# Altium footprint library Package_SON.PcbLib: 112 footprints (part 2 of 7)
Each footprint in its own frame and in the unit in brackets; x right, y up, seen from the top. Pads: shape width x height; smd on the part's side, far side on the other; paste and mask are expansions set on the pad; w line width, h text height; cw(c..) or ccw(c..) is an arc to the next point about the centre after c.
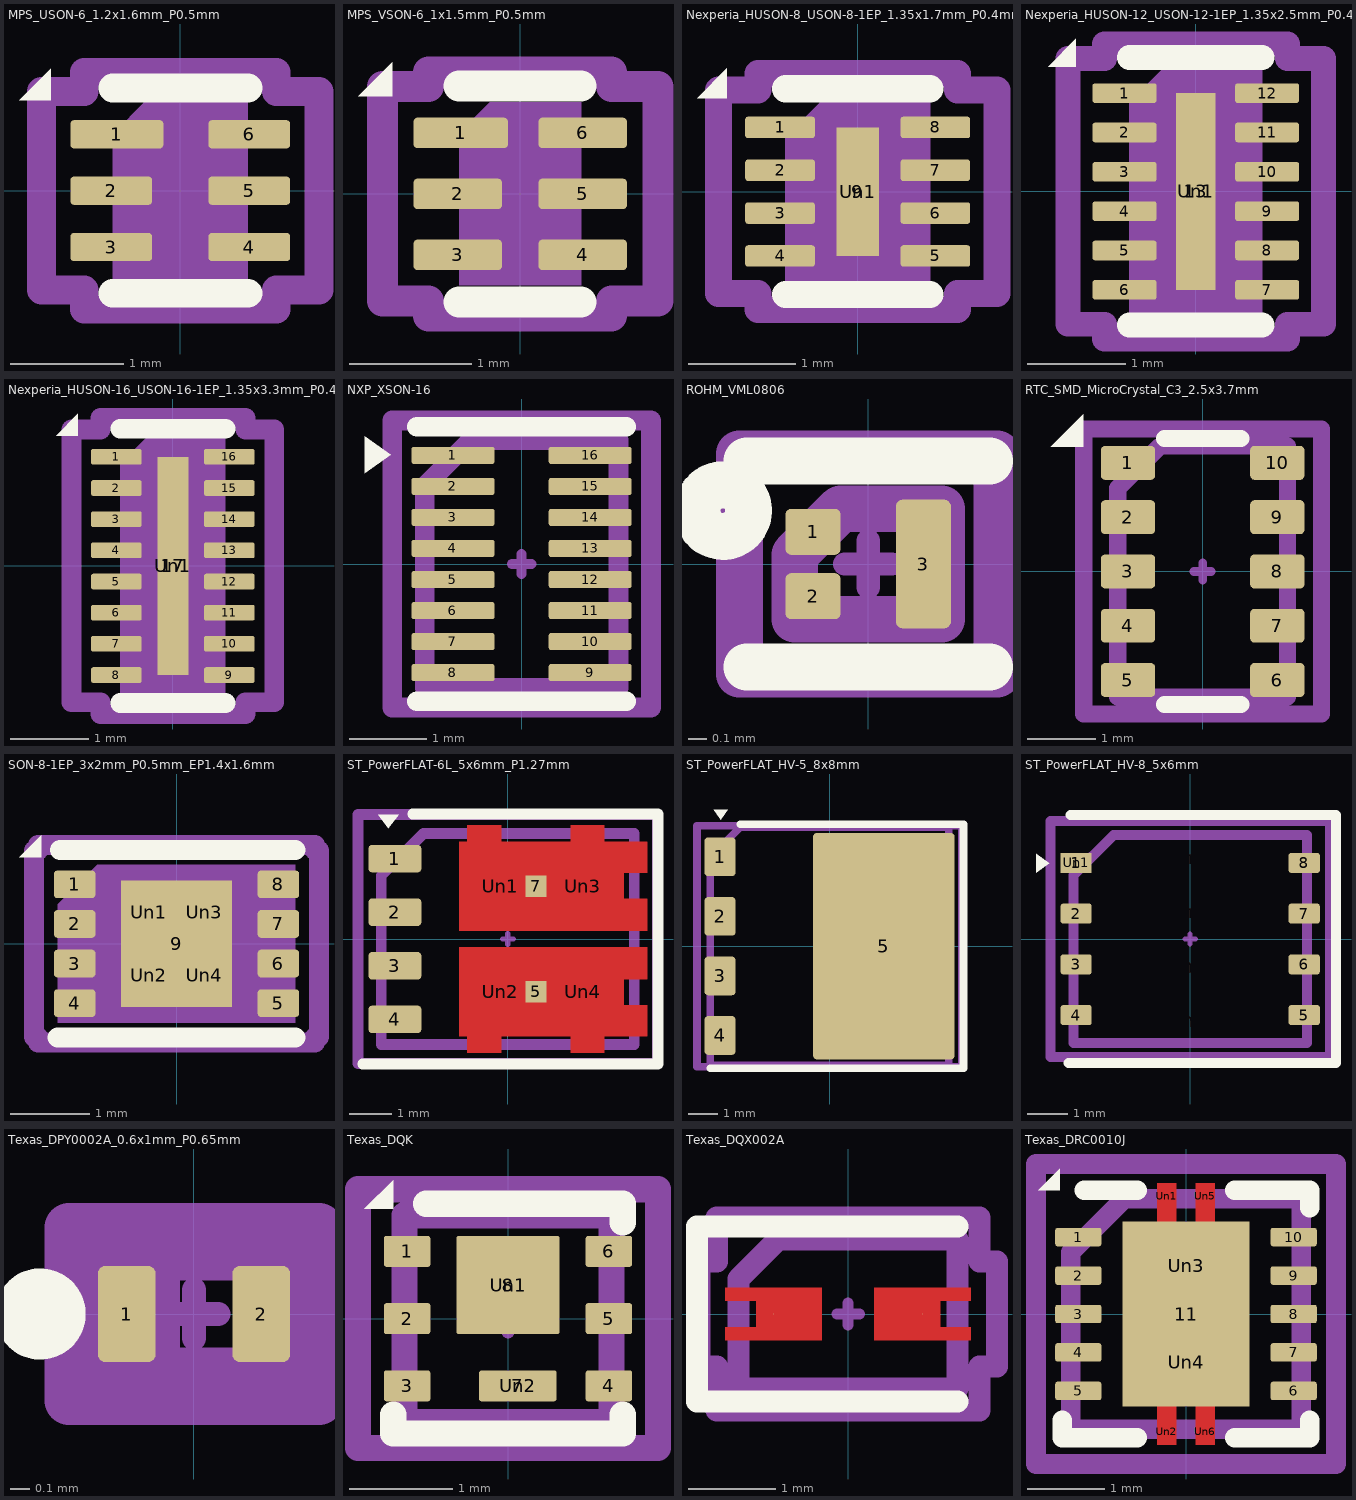
[diagram p1: the footprints below, top view; thin cyan lines are the x and y axes]

## MPS_USON-6_1.2x1.6mm_P0.5mm [mm] "MPS_USON-6_1.2x1.6mm_P0.5mm"
pads (6):
  rrect25% 0.825x0.25 smd: 1(-0.563,0.5)
  rrect25% 0.725x0.25 smd: 2(-0.613,0) 3(-0.613,-0.5) 4(0.613,-0.5) 5(0.613,0) 6(0.613,0.5)
F.SilkS:
  region: -1.15,0.8 -1.43,0.8 -1.15,1.08
  lines w0.254: -0.6,-0.91 0.6,-0.91 ; -0.6,0.91 0.6,0.91
Top Component Center:
  lines w0.127: -0.127,0 0.127,0 ; 0,-0.127 0,0.127
Top Assembly:
  region: 0.6,-0.8 -0.6,-0.8 -0.6,0.5 -0.3,0.8 0.6,0.8
Top Courtyard:
  lines w0.254: -1.23,-0.88 -0.85,-0.88 -0.85,-1.05 0.85,-1.05 0.85,-0.88 1.23,-0.88 1.23,0.88 0.85,0.88 0.85,1.05 -0.85,1.05 -0.85,0.88 -1.23,0.88 -1.23,-0.88
Top Designator:
  text ".Designator" at -2.252,-0.226 h1

## MPS_VSON-6_1x1.5mm_P0.5mm [mm] "MPS_VSON-6_1x1.5mm_P0.5mm"
pads (6):
  rrect25% 0.775x0.25 smd: 1(-0.487,0.5)
  rrect25% 0.725x0.25 smd: 2(-0.513,0) 3(-0.513,-0.5) 4(0.513,-0.5) 5(0.513,0) 6(0.513,0.5)
F.SilkS:
  region: -1.05,0.8 -1.33,0.8 -1.05,1.08
  lines w0.254: -0.5,-0.885 0.5,-0.885 ; -0.5,0.885 0.5,0.885
Top Component Center:
  lines w0.127: -0.127,0 0.127,0 ; 0,-0.127 0,0.127
Top Assembly:
  region: 0.5,-0.75 -0.5,-0.75 -0.5,0.5 -0.25,0.75 0.5,0.75
Top Courtyard:
  lines w0.254: -1.13,-0.88 -0.75,-0.88 -0.75,-1 0.75,-1 0.75,-0.88 1.13,-0.88 1.13,0.88 0.75,0.88 0.75,1 -0.75,1 -0.75,0.88 -1.13,0.88 -1.13,-0.88
Top Designator:
  text ".Designator" at -1.689,-0.17 h0.75

## Nexperia_HUSON-8_USON-8-1EP_1.35x1.7mm_P0.4mm_EP0.4x1.2mm [mm] "Nexperia_HUSON-8_USON-8-1EP_1.35x1.7mm_P0.4mm_EP0.4x1.2mm"
pads (10):
  rrect25% 0.65x0.2 smd: 1(-0.725,0.6) 2(-0.725,0.2) 3(-0.725,-0.2) 4(-0.725,-0.6) 5(0.725,-0.6) 6(0.725,-0.2) 7(0.725,0.2) 8(0.725,0.6)
  rect 0.4x1.2 smd: 9(0,0)
  rrect25% 0.32x0.97 on Top Paste: Un1(0,0)
F.SilkS:
  region: -1.22,0.87 -1.5,0.87 -1.22,1.15
  lines w0.254: -0.675,-0.96 0.675,-0.96 ; -0.675,0.96 0.675,0.96
Top Component Center:
  lines w0.127: -0.127,0 0.127,0 ; 0,-0.127 0,0.127
Top Assembly:
  region: 0.675,-0.85 -0.675,-0.85 -0.675,0.513 -0.337,0.85 0.675,0.85
Top Courtyard:
  lines w0.254: -1.3,-0.95 -0.93,-0.95 -0.93,-1.1 0.93,-1.1 0.93,-0.95 1.3,-0.95 1.3,0.95 0.93,0.95 0.93,1.1 -0.93,1.1 -0.93,0.95 -1.3,0.95 -1.3,-0.95
Top Designator:
  text ".Designator" at -2.252,-0.226 h1
3D body "Nexperia_HUSON-8_USON-8-1EP_1.35x1.7mm_P0.4mm_EP0.4x1.2mm.step": height 0.56, standoff 0, extent -0.675,-0.837 0.675,0.837

## Nexperia_HUSON-12_USON-12-1EP_1.35x2.5mm_P0.4mm_EP0.4x2mm [mm] "Nexperia_HUSON-12_USON-12-1EP_1.35x2.5mm_P0.4mm_EP0.4x2mm"
pads (14):
  rrect25% 0.65x0.2 smd: 1(-0.725,1) 2(-0.725,0.6) 3(-0.725,0.2) 4(-0.725,-0.2) 5(-0.725,-0.6) 6(-0.725,-1) 7(0.725,-1) 8(0.725,-0.6) 9(0.725,-0.2) 10(0.725,0.2) 11(0.725,0.6) 12(0.725,1)
  rect 0.4x2 smd: 13(0,0)
  rrect25% 0.32x1.61 on Top Paste: Un1(0,0)
F.SilkS:
  region: -1.22,1.27 -1.5,1.27 -1.22,1.55
  lines w0.254: -0.675,-1.36 0.675,-1.36 ; -0.675,1.36 0.675,1.36
Top Component Center:
  lines w0.127: -0.127,0 0.127,0 ; 0,-0.127 0,0.127
Top Assembly:
  region: 0.675,-1.25 -0.675,-1.25 -0.675,0.913 -0.337,1.25 0.675,1.25
Top Courtyard:
  lines w0.254: -1.3,-1.35 -0.93,-1.35 -0.93,-1.5 0.93,-1.5 0.93,-1.35 1.3,-1.35 1.3,1.35 0.93,1.35 0.93,1.5 -0.93,1.5 -0.93,1.35 -1.3,1.35 -1.3,-1.35
Top Designator:
  text ".Designator" at -2.252,-0.226 h1
3D body "Nexperia_HUSON-12_USON-12-1EP_1.35x2.5mm_P0.4mm_EP0.4x2mm.step": height 0.56, standoff 0, extent -0.675,-1.238 0.675,1.238

## Nexperia_HUSON-16_USON-16-1EP_1.35x3.3mm_P0.4mm_EP0.4x2.8mm [mm] "Nexperia_HUSON-16_USON-16-1EP_1.35x3.3mm_P0.4mm_EP0.4x2.8mm"
pads (18):
  rrect25% 0.65x0.2 smd: 1(-0.725,1.4) 2(-0.725,1) 3(-0.725,0.6) 4(-0.725,0.2) 5(-0.725,-0.2) 6(-0.725,-0.6) 7(-0.725,-1) 8(-0.725,-1.4) 9(0.725,-1.4) 10(0.725,-1) 11(0.725,-0.6) 12(0.725,-0.2) 13(0.725,0.2) 14(0.725,0.6) 15(0.725,1) 16(0.725,1.4)
  rect 0.4x2.8 smd: 17(0,0)
  rrect25% 0.32x2.26 on Top Paste: Un1(0,0)
F.SilkS:
  region: -1.22,1.67 -1.5,1.67 -1.22,1.95
  lines w0.254: -0.675,-1.76 0.675,-1.76 ; -0.675,1.76 0.675,1.76
Top Component Center:
  lines w0.127: -0.127,0 0.127,0 ; 0,-0.127 0,0.127
Top Assembly:
  region: 0.675,-1.65 -0.675,-1.65 -0.675,1.312 -0.337,1.65 0.675,1.65
Top Courtyard:
  lines w0.254: -1.3,-1.75 -0.93,-1.75 -0.93,-1.9 0.93,-1.9 0.93,-1.75 1.3,-1.75 1.3,1.75 0.93,1.75 0.93,1.9 -0.93,1.9 -0.93,1.75 -1.3,1.75 -1.3,-1.75
Top Designator:
  text ".Designator" at -2.252,-0.226 h1
3D body "Nexperia_HUSON-16_USON-16-1EP_1.35x3.3mm_P0.4mm_EP0.4x2.8mm.step": height 0.56, standoff 0, extent -0.675,-1.637 0.675,1.637

## NXP_XSON-16 [mm] "NXP_XSON-16"
pads (16):
  rrect25% 1.07x0.22 smd: 1(-0.885,1.4) 2(-0.885,1) 3(-0.885,0.6) 4(-0.885,0.2) 5(-0.885,-0.2) 6(-0.885,-0.6) 7(-0.885,-1) 8(-0.885,-1.4) 9(0.885,-1.4) 10(0.885,-1) 11(0.885,-0.6) 12(0.885,-0.2) 13(0.885,0.2) 14(0.885,0.6) 15(0.885,1) 16(0.885,1.4)
F.SilkS:
  region: -1.69,1.41 -2.02,1.17 -2.02,1.65
  lines w0.254: -1.35,-1.77 1.35,-1.77 ; -1.35,1.77 1.35,1.77
Top Component Center:
  lines w0.127: -0.127,0 0.127,0 ; 0,-0.127 0,0.127
Top Assembly:
  lines w0.254: -1.25,0.975 -1.25,-1.6 1.25,-1.6 1.25,1.6 -0.625,1.6 ; -1.25,1 -0.65,1.6
Top Courtyard:
  lines w0.254: -1.67,-1.85 1.67,-1.85 1.67,1.85 -1.67,1.85 -1.67,-1.85
Top Designator:
  text ".Designator" at -3.434,-0.345 h1.52
3D body "NXP_XSON-16.step": height 0.52, standoff 0, extent -1.25,-1.59 1.25,1.59

## ROHM_VML0806 [mm] "ROHM_VML0806"
pads (3):
  rrect25% 0.3x0.25 smd: 1(-0.3,0.175) 2(-0.3,-0.175)
  rrect25% 0.3x0.7 smd: 3(0.3,0)
F.SilkS:
  circle w0.254: c-0.79,0.29 r0.14
  lines w0.254: -0.66,-0.56 0.66,-0.56 ; -0.66,0.56 0.66,0.56
Top Component Center:
  lines w0.127: -0.127,0 0.127,0 ; 0,-0.127 0,0.127
Top Assembly:
  lines w0.254: -0.4,-0.3 0.4,-0.3 0.4,0.3 -0.15,0.3 -0.4,0.05 -0.4,-0.3
Top Courtyard:
  lines w0.254: -0.7,-0.6 0.7,-0.6 0.7,0.6 -0.7,0.6 -0.7,-0.6
Top Designator:
  text ".Designator" at -1.689,-0.17 h0.75

## RTC_SMD_MicroCrystal_C3_2.5x3.7mm [mm] "RTC_SMD_MicroCrystal_C3_2.5x3.7mm"
pads (10):
  rrect25% 0.8x0.5 smd: 1(-1.1,1.6) 2(-1.1,0.8) 3(-1.1,0) 4(-1.1,-0.8) 5(-1.1,-1.6) 6(1.1,-1.6) 7(1.1,-0.8) 8(1.1,0) 9(1.1,0.8) 10(1.1,1.6)
F.SilkS:
  region: -1.76,1.84 -2.24,1.84 -1.76,2.32
  lines w0.254: -0.56,-1.96 0.56,-1.96 ; -0.56,1.96 0.56,1.96
Top Component Center:
  lines w0.127: -0.127,0 0.127,0 ; 0,-0.127 0,0.127
Top Assembly:
  lines w0.254: -1.25,-1.85 1.25,-1.85 1.25,1.85 -0.625,1.85 -1.25,1.225 -1.25,-1.85
Top Courtyard:
  lines w0.254: -1.75,-2.1 1.75,-2.1 1.75,2.1 -1.75,2.1 -1.75,-2.1
Top Designator:
  text ".Designator" at -2.252,-0.226 h1

## SON-8-1EP_3x2mm_P0.5mm_EP1.4x1.6mm [mm] "SON-8-1EP_3x2mm_P0.5mm_EP1.4x1.6mm"
pads (13):
  rrect25% 0.525x0.35 smd: 1(-1.288,0.75) 2(-1.288,0.25) 3(-1.288,-0.25) 4(-1.288,-0.75) 5(1.288,-0.75) 6(1.288,-0.25) 7(1.288,0.25) 8(1.288,0.75)
  rect 1.4x1.6 smd: 9(0,0)
  rrect25% 0.56x0.64 on Top Paste: Un1(-0.35,0.4) Un2(-0.35,-0.4) Un3(0.35,0.4) Un4(0.35,-0.4)
F.SilkS:
  region: -1.71,1.09 -1.99,1.09 -1.71,1.37
  lines w0.254: -1.5,-1.185 1.5,-1.185 ; -1.47,1.185 1.5,1.185
Top Component Center:
  lines w0.127: -0.127,0 0.127,0 ; 0,-0.127 0,0.127
Top Assembly:
  region: 1.5,-1 -1.5,-1 -1.5,0.5 -1,1 1.5,1
Top Courtyard:
  lines w0.254: -1.8,-1.18 -1.8,1.18 -1.75,1.18 -1.75,1.25 1.75,1.25 1.75,1.18 1.8,1.18 1.8,-1.18 1.75,-1.18 1.75,-1.25 -1.75,-1.25 -1.75,-1.18 -1.8,-1.18
Top Designator:
  text ".Designator" at -2.252,-0.226 h1

## ST_PowerFLAT-6L_5x6mm_P1.27mm [mm] "ST_PowerFLAT-6L_5x6mm_P1.27mm"
pads (10):
  rrect25% 1.25x0.65 smd: 1(-2.675,1.905) 2(-2.675,0.635) 3(-2.675,-0.635) 4(-2.675,-1.905)
  rect 0.5x0.5 smd: 5(0.665,-1.25) 7(0.665,1.25)
  rrect25% 1.68x1.68 on Top Paste: Un1(-0.175,1.25) Un2(-0.175,-1.25) Un3(1.775,1.25) Un4(1.775,-1.25)
F.Cu:
  region: 3.3,-0.95 2.75,-0.95 2.75,-1.575 3.3,-1.575 3.3,-2.3 2.29,-2.3 2.29,-2.7 1.49,-2.7 1.49,-2.3 -0.16,-2.3 -0.16,-2.7 -0.96,-2.7 -0.96,-2.3 -1.15,-2.3 -1.15,-0.2 3.3,-0.2
  region: 2.29,2.3 3.3,2.3 3.3,1.575 2.75,1.575 2.75,0.95 3.3,0.95 3.3,0.2 -1.15,0.2 -1.15,2.3 -0.96,2.3 -0.96,2.7 -0.16,2.7 -0.16,2.3 1.49,2.3 1.49,2.7 2.29,2.7
F.SilkS:
  region: -2.83,2.62 -3.07,2.95 -2.59,2.95
  lines w0.254: -3.44,-2.96 3.56,-2.96 3.56,2.96 -2.25,2.96
F.Mask:
  region: 3.3,-0.95 2.75,-0.95 2.75,-1.575 3.3,-1.575 3.3,-2.3 2.29,-2.3 2.29,-2.7 1.49,-2.7 1.49,-2.3 -0.16,-2.3 -0.16,-2.7 -0.96,-2.7 -0.96,-2.3 -1.15,-2.3 -1.15,-0.2 3.3,-0.2
  region: 2.29,2.3 3.3,2.3 3.3,1.575 2.75,1.575 2.75,0.95 3.3,0.95 3.3,0.2 -1.15,0.2 -1.15,2.3 -0.96,2.3 -0.96,2.7 -0.16,2.7 -0.16,2.3 1.49,2.3 1.49,2.7 2.29,2.7
Top Component Center:
  lines w0.127: -0.127,0 0.127,0 ; 0,-0.127 0,0.127
Top Assembly:
  lines w0.254: -3,-2.5 -3,1.5 -2,2.5 3,2.5 3,-2.5 -3,-2.5
Top Courtyard:
  lines w0.254: -3.55,-2.95 3.55,-2.95 3.55,2.95 -3.55,2.95 -3.55,-2.95
Top Designator:
  text ".Designator" at -3.434,-0.345 h1.52

## ST_PowerFLAT_HV-5_8x8mm [mm] "ST_PowerFLAT_HV-5_8x8mm"
pads (5):
  rrect24% 1.05x1.3 smd: 1(-3.675,3) 2(-3.675,1) 3(-3.675,-1) 4(-3.675,-3)
  rrect5% 4.75x7.6 smd: 5(1.825,0)
F.SilkS:
  region: -3.65,4.25 -3.89,4.58 -3.41,4.58
  lines w0.254: -4,-4.1 4.5,-4.1 4.5,4.1 -3,4.1
Top Component Center:
  lines w0.127: -0.127,0 0.127,0 ; 0,-0.127 0,0.127
Top Assembly:
  lines w0.254: -4,-4 4,-4 4,4 -3,4 -4,3 -4,-4
Top Courtyard:
  lines w0.254: -4.45,-4.05 -4.45,4.05 4.45,4.05 4.45,-4.05 -4.45,-4.05
Top Designator:
  text ".Designator" at -3.434,-0.345 h1.52

## ST_PowerFLAT_HV-8_5x6mm [mm] "ST_PowerFLAT_HV-8_5x6mm"
pads (17):
  rect 0.78x0.5 smd: 1(-2.855,1.905)
  rrect25% 0.78x0.5 smd: 2(-2.855,0.635) 3(-2.855,-0.635) 4(-2.855,-1.905) 5(2.855,-1.905) 6(2.855,-0.635) 7(2.855,0.635) 8(2.855,1.905)
  rrect25% 0.78x0.5 on Top Paste: Un1(-2.855,1.905)
  rrect20% 1.285x1.22 on Top Paste: Un2(-1.495,2.04) Un3(-1.495,0.68) Un4(-1.495,-0.68) Un5(-1.492,-2.04) Un6(-0.07,2.04) Un7(-0.07,0.68) Un8(-0.07,-0.68) Un9(-0.067,-2.04)
F.SilkS:
  region: -3.53,1.9 -3.86,1.66 -3.86,2.14
  lines w0.254: -3.05,-3.1 3.65,-3.1 3.65,3.1 -3,3.1
Top Component Center:
  lines w0.127: -0.127,0 0.127,0 ; 0,-0.127 0,0.127
Top Assembly:
  lines w0.254: -2.925,-2.6 2.925,-2.6 2.925,2.6 -1.92,2.6 -2.925,1.6 -2.925,-2.6
Top Courtyard:
  lines w0.254: -3.5,-2.95 -3.5,2.95 3.5,2.95 3.5,-2.95 -3.5,-2.95
Top Designator:
  text ".Designator" at -3.434,-0.345 h1.52

## Texas_DPY0002A_0.6x1mm_P0.65mm [mm] "Texas_DPY0002A_0.6x1mm_P0.65mm"
pads (2):
  rrect25% 0.3x0.5 smd: 1(-0.35,0) 2(0.35,0)
F.SilkS:
  circle w0.254: c-0.8,0 r0.11
Top Component Center:
  lines w0.127: -0.127,0 0.127,0 ; 0,-0.127 0,0.127
Top Assembly:
  lines w0.254: -0.4,-0.3 -0.4,0.3 ; -0.3,-0.3 -0.3,0.3 ; -0.2,-0.3 -0.2,0.3 ; -0.5,-0.3 0.5,-0.3 0.5,0.3 -0.5,0.3 -0.5,-0.3
Top Courtyard:
  lines w0.254: -0.65,-0.45 0.65,-0.45 0.65,0.45 -0.65,0.45 -0.65,-0.45
Top Designator:
  text ".Designator" at -1.689,-0.17 h0.75

## Texas_DQK [mm] "Texas_DQK"
pads (10):
  rrect17% 0.45x0.3 smd: 1(-0.975,0.65) 2(-0.975,0) 3(-0.975,-0.65) 4(0.975,-0.65) 5(0.975,0) 6(0.975,0.65)
  rrect17% 0.75x0.3 smd: 7(0.095,-0.65)
  rrect5% 1x0.95 smd: 8(0,0.325)
  rrect6% 0.9x0.86 on Top Paste: Un1(0,0.325)
  rrect17% 0.7x0.29 on Top Paste: Un2(0.095,-0.65)
F.SilkS:
  region: -1.11,1.06 -1.39,1.06 -1.11,1.34
  lines w0.254: -1.11,-0.93 -1.11,-1.11 1.11,-1.11 1.11,-0.93 ; -0.79,1.11 1.11,1.11 1.11,0.93
Top Component Center:
  lines w0.127: -0.127,0 0.127,0 ; 0,-0.127 0,0.127
Top Assembly:
  lines w0.254: -1,-1 -1,1 1,1 1,-1 -1,-1
Top Courtyard:
  lines w0.254: -1.45,-1.25 -1.45,1.25 1.45,1.25 1.45,-1.25 -1.45,-1.25
Top Designator:
  text ".Designator" at -2.252,-0.226 h1

## Texas_DQX002A [mm] "Texas_DQX002A"
pads (2):
  rect 0.001x0.001 smd: 1(-0.85,0) 2(0.85,0)
F.Cu:
  region: 1.4,0.15 1.05,0.15 1.05,-0.15 1.4,-0.15 1.4,-0.3 0.3,-0.3 0.3,0.3 1.4,0.3
  region: -0.3,-0.3 -1.4,-0.3 -1.4,-0.15 -1.05,-0.15 -1.05,0.15 -1.4,0.15 -1.4,0.3 -0.3,0.3
F.SilkS:
  lines w0.254: 1.25,-1 -1.725,-1 -1.725,1 1.25,1
F.Paste:
  lines w0.254: -1.4,-0.3 -1.05,-0.3 -1.05,-0.15 -1.4,-0.15 -1.4,-0.3 ; -1.4,0.15 -1.05,0.15 -1.05,0.3 -1.4,0.3 -1.4,0.15 ; -0.8,-0.3 -0.3,-0.3 -0.3,0.3 -0.8,0.3 -0.8,-0.3 ; 0.3,-0.3 0.8,-0.3 0.8,0.3 0.3,0.3 0.3,-0.3 ; 1.05,-0.3 1.4,-0.3 1.4,-0.15 1.05,-0.15 1.05,-0.3 ; 1.05,0.15 1.4,0.15 1.4,0.3 1.05,0.3 1.05,0.15
F.Mask:
  region: 1.4,0.15 1.05,0.15 1.05,-0.15 1.4,-0.15 1.4,-0.3 0.3,-0.3 0.3,0.3 1.4,0.3
  region: -0.3,-0.3 -1.4,-0.3 -1.4,-0.15 -1.05,-0.15 -1.05,0.15 -1.4,0.15 -1.4,0.3 -0.3,0.3
Top Component Center:
  lines w0.127: -0.127,0 0.127,0 ; 0,-0.127 0,0.127
Top Assembly:
  lines w0.254: -1.25,-0.85 1.25,-0.85 1.25,0.85 -0.8,0.85 -1.25,0.4 -1.25,-0.85
Top Courtyard:
  lines w0.254: -1.7,-0.6 -1.5,-0.6 -1.5,-1.1 1.5,-1.1 1.5,-0.6 1.7,-0.6 1.7,0.6 1.5,0.6 1.5,1.1 -1.5,1.1 -1.5,0.6 -1.7,0.6 -1.7,-0.05 -1.7,-0.6
Top Designator:
  text ".Designator" at -2.252,-0.226 h1

## Texas_DRC0010J [mm] "Texas_DRC0010J"
pads (17):
  rrect25% 0.6x0.24 smd: 1(-1.4,1) 2(-1.4,0.5) 3(-1.4,0) 4(-1.4,-0.5) 5(-1.4,-1) 6(1.4,-1) 7(1.4,-0.5) 8(1.4,0) 9(1.4,0.5) 10(1.4,1)
  rect 1.65x2.4 smd: 11(0,0)
  rrect10% 0.25x0.34 on Top Paste: Un1(-0.25,1.53) Un2(-0.25,-1.53) Un5(0.25,1.53) Un6(0.25,-1.53)
  rrect10% 1.5x1.06 on Top Paste: Un3(0,0.63) Un4(0,-0.63)
F.Cu:
  region: 0.375,-1.7 0.125,-1.7 0.125,-1.1 -0.125,-1.1 -0.125,-1.7 -0.375,-1.7 -0.375,1.7 -0.125,1.7 -0.125,1.1 0.125,1.1 0.125,1.7 0.375,1.7
F.SilkS:
  region: -1.64,1.61 -1.92,1.61 -1.64,1.89
  lines w0.254: -1.61,-1.38 -1.61,-1.61 -0.635,-1.61 ; -1.32,1.61 -0.635,1.61 ; 0.635,-1.61 1.61,-1.61 1.61,-1.38 ; 0.635,1.61 1.61,1.61 1.61,1.38
F.Mask:
  region: 0.375,-1.7 0.125,-1.7 0.125,-1.1 -0.125,-1.1 -0.125,-1.7 -0.375,-1.7 -0.375,1.7 -0.125,1.7 -0.125,1.1 0.125,1.1 0.125,1.7 0.375,1.7
Top Component Center:
  lines w0.127: -0.127,0 0.127,0 ; 0,-0.127 0,0.127
Top Assembly:
  lines w0.254: -1.5,-1.5 -1.5,0.8 -0.8,1.5 1.5,1.5 1.5,-1.5 -1.5,-1.5
Top Courtyard:
  lines w0.254: -1.95,-1.95 -1.95,1.95 1.95,1.95 1.95,-1.95 -1.95,-1.95
Top Designator:
  text ".Designator" at -3.434,-0.345 h1.52